# Altium schematic symbol library MINI_PCIE.SCHLIB: 2 symbols
Pins are listed as number, name and electrical type; pins without a type are passive.

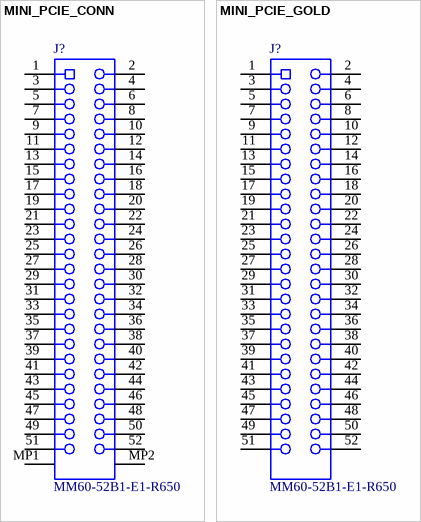
[diagram p0: symbols MINI_PCIE_CONN to MINI_PCIE_GOLD]

## MINI_PCIE_CONN
designator J?, comment MM60-52B1-E1-R650
Compatible with PCI Express Mini Card, 5.9 mm Height, -40 to 85 degC, 52-Pin SMD, RoHS, Tape and Reel; Manufacturer: JAE Electronics; Product Training Modules: MM60PCIeMiniCardConnectorMemoryModules,theSM3andMM60SeriesofConnectors; Pitch: 0.031"(0.80mm); Associated Product: 670-2277-2-ND-CONNMINIEXPRESSCARDLATCHSMD670-2277-1-ND-CONNMINIEXPRESSCARDLATCHSMD670-2277-6-ND-CONNMINIEXPRESSCARDLATCHSMD; Read Out: Dual; Other Names: 670-2275-6; Number of Positions: 52; Online Catalog: MM60Series; Other Related Documents: CardSelectionGuide; Package Version: Rev. 2, 01/2006; Material - Insulation: Thermoplastic; Catalog Drawings: MM60SeriesSideMM60SeriesTop; Gender: Female; Featured Product: MM60PCIeMiniCardConnector; Card Thickness: 0.039"(1.00mm); Number of Positions/Bay/Row: -; Category: Connectors,Interconnects; Termination: Solder; Series: MM60; Card Type: PCIExpressMiniCard; Flange Feature: -; Contact Type: -; Family: CardEdgeConnectors-EdgeboardConnectors; Package Reference: MM60-52B1; Manufacturer URL: http://www.jaeusa.com/; Contact Material: CopperAlloy; Mounting Technology: SurfaceMount; Operating Temperature: -40°C~85°C; Package URL: https://datasheet.ciiva.com/7633/332207-7633323.pdf; Contact Finish Thickness: 3.9µin(0.10µm); Datasheet Version: 04/2015; Datasheet URL: http://www.jae.com/z-en/pdf_download_exec.cfm?param=MB-0147-6E_MM60.pdf; Contact Finish: Gold; Standard Package: 1; Mounting Type: SurfaceMount,RightAngle; Packaging: Digi-Reel®; Number of Rows: 2; Color: -; Package Description: 52-Pin Surface Mount Device, Body 28.4 x 10 mm, Pitch 0.8 mm; Features: BoardGuide; Manufacturer Part Number: MM60-52B1-E1-R650
footprint MINI_PCIE_CONN_3130
footprint MINI_PCIE_CONN_5130
pins: 1, 2, 3, 4, 5, 6, 7, 8, 9, 10, 11, 12, 13, 14, 15, 16, 17, 18, 19, 20, 21, 22, 23, 24, 25, 26, 27, 28, 29, 30, 31, 32, 33, 34, 35, 36, 37, 38, 39, 40, 41, 42, 43, 44, 45, 46, 47, 48, 49, 50, 51, 52, MP1, MP2

## MINI_PCIE_GOLD
designator J?, comment MM60-52B1-E1-R650
Compatible with PCI Express Mini Card, 5.9 mm Height, -40 to 85 degC, 52-Pin SMD, RoHS, Tape and Reel; Manufacturer: JAE Electronics; Product Training Modules: MM60PCIeMiniCardConnectorMemoryModules,theSM3andMM60SeriesofConnectors; Pitch: 0.031"(0.80mm); Associated Product: 670-2277-2-ND-CONNMINIEXPRESSCARDLATCHSMD670-2277-1-ND-CONNMINIEXPRESSCARDLATCHSMD670-2277-6-ND-CONNMINIEXPRESSCARDLATCHSMD; Read Out: Dual; Other Names: 670-2275-6; Number of Positions: 52; Online Catalog: MM60Series; Other Related Documents: CardSelectionGuide; Package Version: Rev. 2, 01/2006; Material - Insulation: Thermoplastic; Catalog Drawings: MM60SeriesSideMM60SeriesTop; Gender: Female; Featured Product: MM60PCIeMiniCardConnector; Card Thickness: 0.039"(1.00mm); Number of Positions/Bay/Row: -; Category: Connectors,Interconnects; Termination: Solder; Series: MM60; Card Type: PCIExpressMiniCard; Flange Feature: -; Contact Type: -; Family: CardEdgeConnectors-EdgeboardConnectors; Package Reference: MM60-52B1; Manufacturer URL: http://www.jaeusa.com/; Contact Material: CopperAlloy; Mounting Technology: SurfaceMount; Operating Temperature: -40°C~85°C; Package URL: https://datasheet.ciiva.com/7633/332207-7633323.pdf; Contact Finish Thickness: 3.9µin(0.10µm); Datasheet Version: 04/2015; Datasheet URL: http://www.jae.com/z-en/pdf_download_exec.cfm?param=MB-0147-6E_MM60.pdf; Contact Finish: Gold; Standard Package: 1; Mounting Type: SurfaceMount,RightAngle; Packaging: Digi-Reel®; Number of Rows: 2; Color: -; Package Description: 52-Pin Surface Mount Device, Body 28.4 x 10 mm, Pitch 0.8 mm; Features: BoardGuide; Manufacturer Part Number: MM60-52B1-E1-R650
footprint MINI_PCIE_GOLD_5130
footprint MINI_PCIE_GOLD_3130
pins: 1, 2, 3, 4, 5, 6, 7, 8, 9, 10, 11, 12, 13, 14, 15, 16, 17, 18, 19, 20, 21, 22, 23, 24, 25, 26, 27, 28, 29, 30, 31, 32, 33, 34, 35, 36, 37, 38, 39, 40, 41, 42, 43, 44, 45, 46, 47, 48, 49, 50, 51, 52